# Altium schematic symbol library LFE5U-25F-6TG144C.SchLib: 1 symbol
Pins are listed as number, name and electrical type; pins without a type are passive.

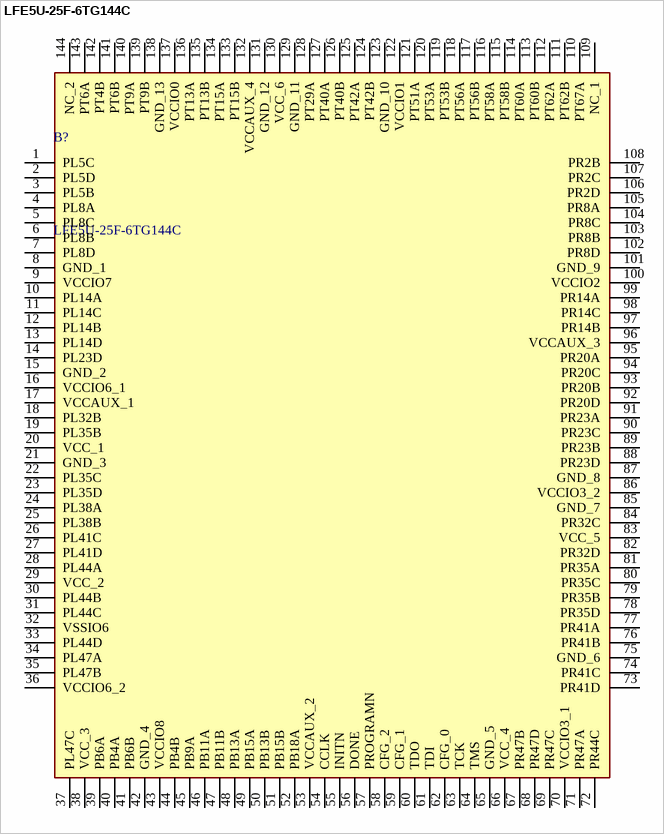
[diagram p0: symbol LFE5U-25F-6TG144C]

## LFE5U-25F-6TG144C
designator B?
ECP5 Field Programmable Gate Array (FPGA) IC 98 1032192 24000 144-LQFP 1.045V ~ 1.155V 0C ~ 85C (TJ); Manufacturer_Name: Lattice Semiconductor; Geometry.Height: 1.6mm; Manufacturer_Part_Number: LFE5U-25F-6TG144C; Mouser Part Number: 842-LFE5U25F6TG144C; Mouser Price/Stock: https://www.mouser.co.uk/ProductDetail/Lattice/LFE5U-25F-6TG144C?qs=TuK3vfAjtkUJ2XBiIF%2F%2FCA%3D%3D; Arrow Part Number: *; Arrow Price/Stock: *; Datasheet Link: https://www.latticesemi.com/Products/FPGAandCPLD/ECP5
footprint QFP50P2200X2200X160-144N
pins: 1 PL5C, 2 PL5D, 3 PL5B, 4 PL8A, 5 PL8C, 6 PL8B, 7 PL8D, 8 GND_1, 9 VCCIO7, 10 PL14A, 11 PL14C, 12 PL14B, 13 PL14D, 14 PL23D, 15 GND_2, 16 VCCIO6_1, 17 VCCAUX_1, 18 PL32B, 19 PL35B, 20 VCC_1, 21 GND_3, 22 PL35C, 23 PL35D, 24 PL38A, 25 PL38B, 26 PL41C, 27 PL41D, 28 PL44A, 29 VCC_2, 30 PL44B, 31 PL44C, 32 VSSIO6, 33 PL44D, 34 PL47A, 35 PL47B, 36 VCCIO6_2, 37 PL47C, 38 VCC_3, 39 PB6A, 40 PB4A, 41 PB6B, 42 GND_4, 43 VCCIO8, 44 PB4B, 45 PB9A, 46 PB11A, 47 PB11B, 48 PB13A, 49 PB15A, 50 PB13B, 51 PB15B, 52 PB18A, 53 VCCAUX_2, 54 CCLK, 55 INITN, 56 DONE, 57 PROGRAMN, 58 CFG_2, 59 CFG_1, 60 TDO, 61 TDI, 62 CFG_0, 63 TCK, 64 TMS, 65 GND_5, 66 VCC_4, 67 PR47B, 68 PR47D, 69 PR47C, 70 VCCIO3_1, 71 PR47A, 72 PR44C, 73 PR41D, 74 PR41C, 75 GND_6, 76 PR41B, 77 PR41A, 78 PR35D, 79 PR35B, 80 PR35C, 81 PR35A, 82 PR32D, 83 VCC_5, 84 PR32C, 85 GND_7, 86 VCCIO3_2, 87 GND_8, 88 PR23D, 89 PR23B, 90 PR23C, 91 PR23A, 92 PR20D, 93 PR20B, 94 PR20C, 95 PR20A, 96 VCCAUX_3, 97 PR14B, 98 PR14C, 99 PR14A, 100 VCCIO2, 101 GND_9, 102 PR8D, 103 PR8B, 104 PR8C, 105 PR8A, 106 PR2D, 107 PR2C, 108 PR2B, 109 NC_1, 110 PT67A, 111 PT62B, 112 PT62A, 113 PT60B, 114 PT60A, 115 PT58B, 116 PT58A, 117 PT56B, 118 PT56A, 119 PT53B, 120 PT53A, 121 PT51A, 122 VCCIO1, 123 GND_10, 124 PT42B, 125 PT42A, 126 PT40B, 127 PT40A, 128 PT29A, 129 GND_11, 130 VCC_6, 131 GND_12, 132 VCCAUX_4, 133 PT15B, 134 PT15A, 135 PT13B, 136 PT13A, 137 VCCIO0, 138 GND_13, 139 PT9B, 140 PT9A, 141 PT6B, 142 PT4B, 143 PT6A, 144 NC_2